# EAGLE library part MCP6052 (library Projekt)
Operationsverstärker Microchip MCP 6052
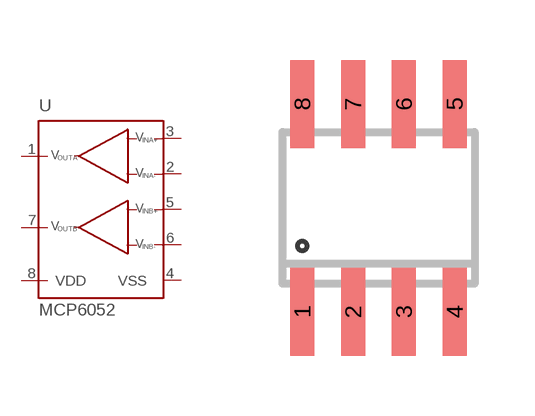
[diagram p18: symbol with the pads of SO8; footprint SO8]

Designator prefix -

## MCP6052  [SO8]
1  VOUTA  out
2  VINA-  in
3  VINA+  in
4  VSS  in
5  VINB+  in
6  VINB-  in
7  VOUTB  out
8  VDD  in

## Footprint SO8 (pad centres in mm)
8-Lead Small Outline IC (SO-8) Source: http://www.analog.com/UploadedFiles/Data_Sheets/703465986AD8611_2_0.pdf
smd 0.6 x 2.2: 1 -1.905,-2.6; 2 -0.635,-2.6; 3 0.635,-2.6; 4 1.905,-2.6; 5 1.905,2.6; 6 0.635,2.6; 7 -0.635,2.6; 8 -1.905,2.6